# Altium schematic symbol library kmilo17pet-AD_Isolators.SchLib: 645 symbols (part 18 of 36)
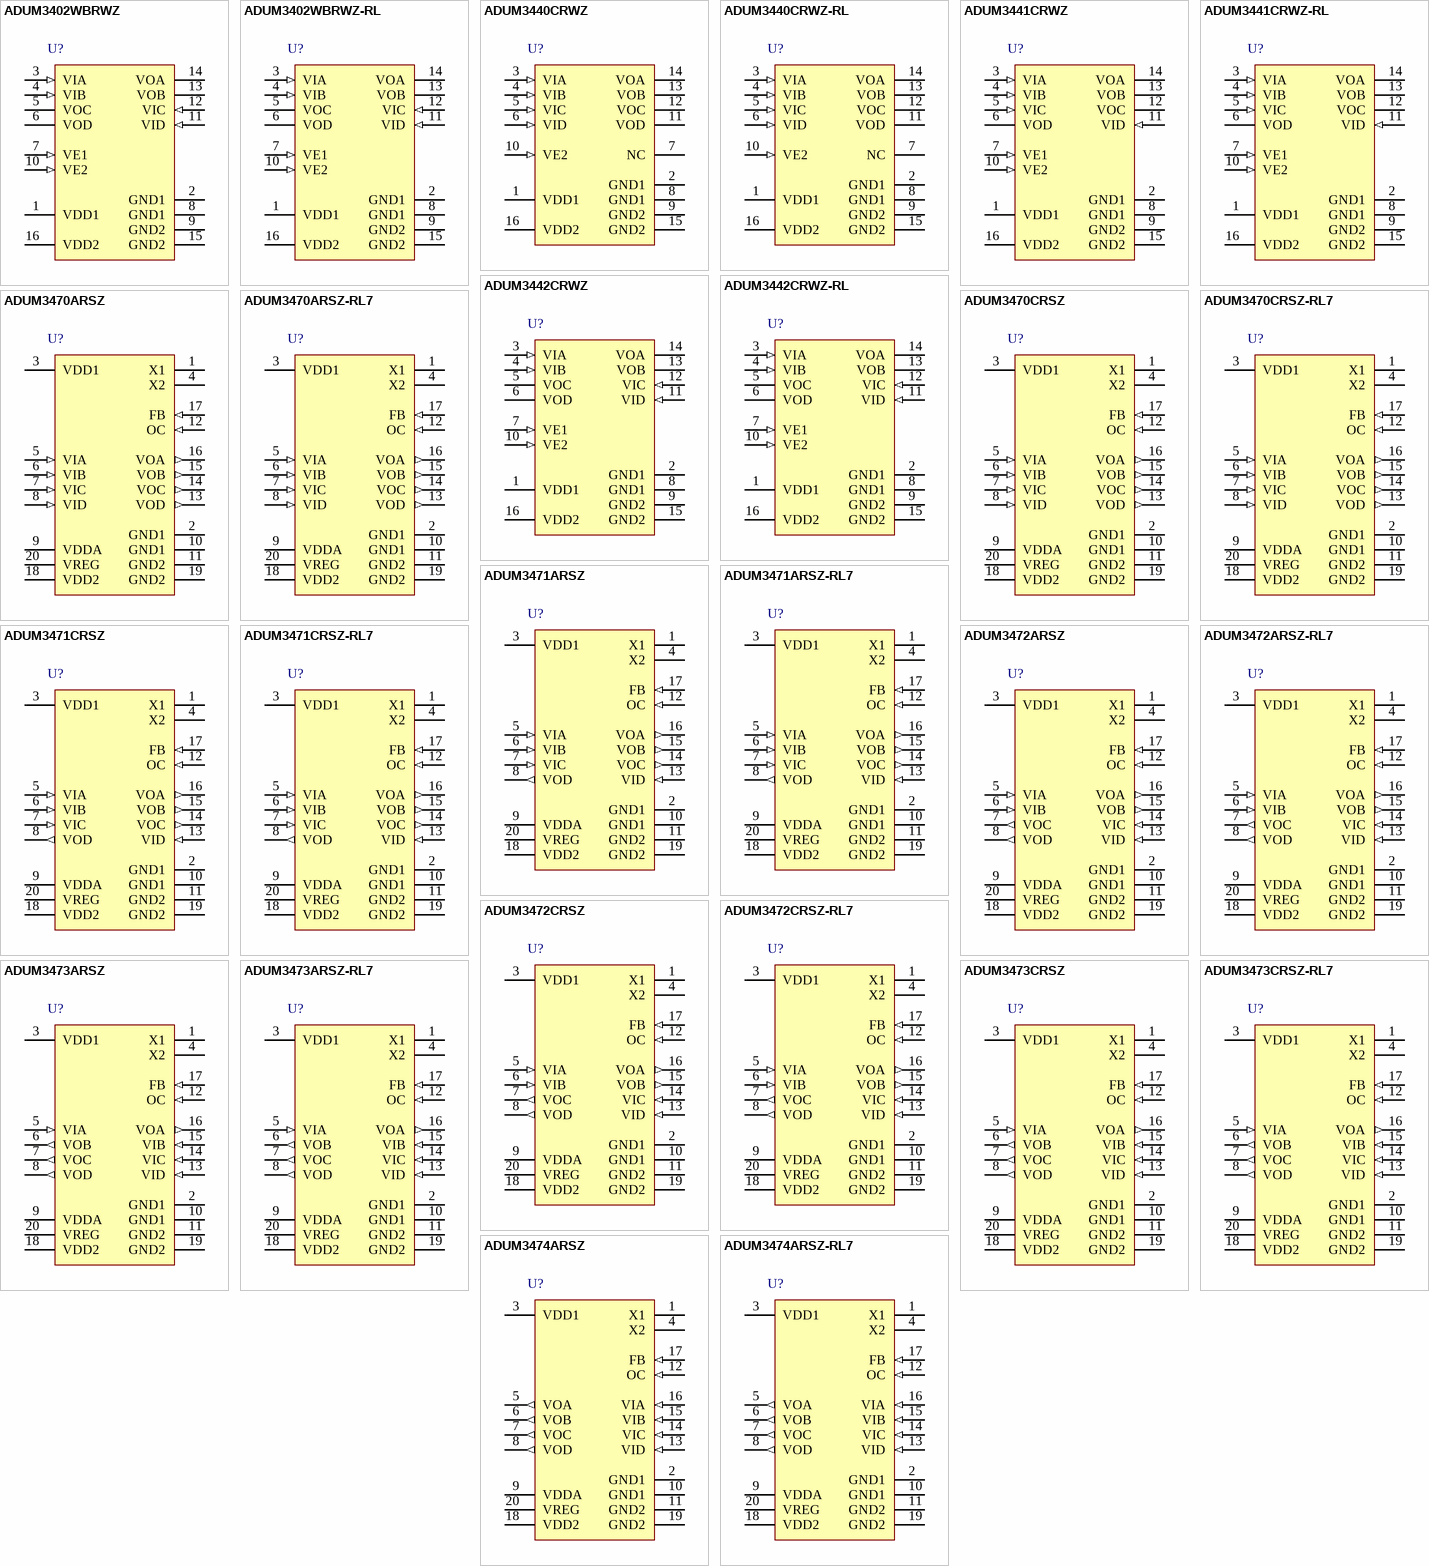
[diagram p37: symbols ADUM3402WBRWZ to ADUM3474ARSZ-RL7]

## ADUM3471ARSZ
designator U?
Isolated Switching Regulator, 2.5 KV rms Insulation Rating, 1 Mbps Data Rate, 100 ns Delay, Industrial, 20-pin SOP (RS-20), Tube; Manufacturer: Analog Devices; PartNumber: ADUM3471ARSZ; Insulation Rating (kVrms): 2.5; Max Data Rate: 1Mbps; Prop Delay: 100ns; DatasheetVersion: Rev. 0; PackageVersion: Mar-03; PackageReference: RS-20; PackageDescription: 20-Pin Shrink Small Outline Package, Body 7.2 x 5.3 mm, Pitch 0.65 mm; Supplier 1: Digi-Key; Supplier Part Number 1: ADUM3471ARSZ-ND; Max Operating Temp (degreesC): 105; Mounting Technology: Surface Mount; Code_JEDEC: MO-150AE; ComponentLink1Description: Manufacturer URL; ComponentLink1URL: http://www.analog.com/en/index.html; ComponentLink2Description: Datasheet; ComponentLink2URL: http://www.analog.com/static/imported-files/data_sheets/ADuM3470_3471_3472_3473_3474.pdf; ComponentLink3Description: Package Specification; ComponentLink3URL: http://www.analog.com/static/imported-files/packages/318405805657546556503576154334802686596RS_20.pdf; ComponentLink4Description: URL Link1; ComponentLink4URL: Reference Circuit:http://www.analog.com/en/interface-isolation/digital-isolators/adum3471/products/product.html#product-recommendations
footprint ADI-RS-20_N (SOP, 20-Leads, Body 7.2x5.3mm, Pitch 0.65mm, IPC Medium Density)
footprint ADI-RS-20_L (SOP, 20-Leads, Body 7.2x5.3mm, Pitch 0.65mm, IPC High Density)
footprint ADI-RS-20_M (SOP, 20-Leads, Body 7.2x5.3mm, Pitch 0.65mm, IPC Low Density)
pins: 1 X1 (power) "Transformer Driver Output 1.", 2 GND1 (power) "Ground 1. Ground reference for isolator primary.", 3 VDD1 (power) "Transformer Driver Supply Voltage 3.0 V to 5.5 V. Connect to VDDA pin. Connect a 10 uF bypass capacitor from VDD1 to GND1.", 4 X2 (power) "Transformer Driver Output 2.", 5 VIA (in) "Logic Input A.", 6 VIB (in) "Logic Input B.", 7 VIC (in) "Logic Input C.", 8 VOD (out) "Logic Output D.", 9 VDDA (power) "Primary Supply Voltage 3.0 V to 5.5 V. Connect to VDD1 pin. Connect a 0.1 uF bypass capacitor from VDDA to GND1.", 10 GND1 (power) "Ground 1. Ground reference for isolator primary.", 11 GND2 (power) "Ground Reference for Isolator Side 2.", 12 OC (in) "Oscillator Control Pin. When OC = logic high = VDD2, the secondary controller runs open-loop. To regulate the output voltage, connect a resistor between the OC pin and GND2, and the secondary controller runs at a frequency (See Datasheet)", 13 VID (in) "Logic Input D.", 14 VOC (out) "Logic Output C.", 15 VOB (out) "Logic Output B.", 16 VOA (out) "Logic Output A.", 17 FB (in) "Feedback Input from the Secondary Output Voltage VISO. Use a resistor divider from VISO to the FB pin to make the VFB voltage equal to the 1.25 V internal reference level using the VISO = VFB x (R1 + R2)/R2 formula. The (See Datasheet)", 18 VDD2 (power) "The Internal Supply Voltage Pin for the Secondary Side Controller and Side 2 Data Channels. When a sufficient external voltage is supplied to VREG, the internal regulator regulates the VDD2 pin to 5.0 V. Otherwise, VDD2 (See Datasheet)", 19 GND2 (power) "Ground Reference for Isolator Side 2.", 20 VREG (power) "The Input of the Internal Regulator to Power the Secondary Side Controller and Side 2 Data Channels. VREG should be in the 5.5 V to 15 V range to regulate the VDD2 output to 5.0 V."

## ADUM3471ARSZ-RL7
designator U?
Isolated Switching Regulator, 2.5 KV rms Insulation Rating, 1 Mbps Data Rate, 100 ns Delay, Industrial, 20-pin SOP (RS-20), Reel; Manufacturer: Analog Devices; PartNumber: ADUM3471ARSZ-RL7; Insulation Rating (kVrms): 2.5; Max Data Rate: 1Mbps; Prop Delay: 100ns; DatasheetVersion: Rev. 0; PackageVersion: Mar-03; PackageReference: RS-20; PackageDescription: 20-Pin Shrink Small Outline Package, Body 7.2 x 5.3 mm, Pitch 0.65 mm; Supplier 1: Mouser; Supplier Part Number 1: 584-ADUM3471ARSZ-R7; Max Operating Temp (degreesC): 105; Mounting Technology: Surface Mount; Code_JEDEC: MO-150AE; ComponentLink1Description: Manufacturer URL; ComponentLink1URL: http://www.analog.com/en/index.html; ComponentLink2Description: Datasheet; ComponentLink2URL: http://www.analog.com/static/imported-files/data_sheets/ADuM3470_3471_3472_3473_3474.pdf; ComponentLink3Description: Package Specification; ComponentLink3URL: http://www.analog.com/static/imported-files/packages/318405805657546556503576154334802686596RS_20.pdf; ComponentLink4Description: URL Link1; ComponentLink4URL: Reference Circuit:http://www.analog.com/en/interface-isolation/digital-isolators/adum3471/products/product.html#product-recommendations
footprint ADI-RS-20_N (SOP, 20-Leads, Body 7.2x5.3mm, Pitch 0.65mm, IPC Medium Density)
footprint ADI-RS-20_L (SOP, 20-Leads, Body 7.2x5.3mm, Pitch 0.65mm, IPC High Density)
footprint ADI-RS-20_M (SOP, 20-Leads, Body 7.2x5.3mm, Pitch 0.65mm, IPC Low Density)
pins: 1 X1 (power) "Transformer Driver Output 1.", 2 GND1 (power) "Ground 1. Ground reference for isolator primary.", 3 VDD1 (power) "Transformer Driver Supply Voltage 3.0 V to 5.5 V. Connect to VDDA pin. Connect a 10 uF bypass capacitor from VDD1 to GND1.", 4 X2 (power) "Transformer Driver Output 2.", 5 VIA (in) "Logic Input A.", 6 VIB (in) "Logic Input B.", 7 VIC (in) "Logic Input C.", 8 VOD (out) "Logic Output D.", 9 VDDA (power) "Primary Supply Voltage 3.0 V to 5.5 V. Connect to VDD1 pin. Connect a 0.1 uF bypass capacitor from VDDA to GND1.", 10 GND1 (power) "Ground 1. Ground reference for isolator primary.", 11 GND2 (power) "Ground Reference for Isolator Side 2.", 12 OC (in) "Oscillator Control Pin. When OC = logic high = VDD2, the secondary controller runs open-loop. To regulate the output voltage, connect a resistor between the OC pin and GND2, and the secondary controller runs at a frequency (See Datasheet)", 13 VID (in) "Logic Input D.", 14 VOC (out) "Logic Output C.", 15 VOB (out) "Logic Output B.", 16 VOA (out) "Logic Output A.", 17 FB (in) "Feedback Input from the Secondary Output Voltage VISO. Use a resistor divider from VISO to the FB pin to make the VFB voltage equal to the 1.25 V internal reference level using the VISO = VFB x (R1 + R2)/R2 formula. The (See Datasheet)", 18 VDD2 (power) "The Internal Supply Voltage Pin for the Secondary Side Controller and Side 2 Data Channels. When a sufficient external voltage is supplied to VREG, the internal regulator regulates the VDD2 pin to 5.0 V. Otherwise, VDD2 (See Datasheet)", 19 GND2 (power) "Ground Reference for Isolator Side 2.", 20 VREG (power) "The Input of the Internal Regulator to Power the Secondary Side Controller and Side 2 Data Channels. VREG should be in the 5.5 V to 15 V range to regulate the VDD2 output to 5.0 V."

## ADUM3471CRSZ
designator U?
Isolated Switching Regulator, 2.5 KV rms Insulation Rating, 25 Mbps Data Rate, 60 ns Delay, Industrial, 20-pin SOP (RS-20), Tube; Manufacturer: Analog Devices; PartNumber: ADUM3471CRSZ; Insulation Rating (kVrms): 5; Max Data Rate: 25Mbps; Prop Delay: 60ns; DatasheetVersion: Rev. 0; PackageVersion: Mar-03; PackageReference: RS-20; PackageDescription: 20-Pin Shrink Small Outline Package, Body 7.2 x 5.3 mm, Pitch 0.65 mm; Supplier 1: Digi-Key; Supplier Part Number 1: ADUM3471CRSZ-ND; Max Operating Temp (degreesC): 105; Mounting Technology: Surface Mount; Code_JEDEC: MO-150AE; ComponentLink1Description: Manufacturer URL; ComponentLink1URL: http://www.analog.com/en/index.html; ComponentLink2Description: Datasheet; ComponentLink2URL: http://www.analog.com/static/imported-files/data_sheets/ADuM3470_3471_3472_3473_3474.pdf; ComponentLink3Description: Package Specification; ComponentLink3URL: http://www.analog.com/static/imported-files/packages/318405805657546556503576154334802686596RS_20.pdf; ComponentLink4Description: URL Link1; ComponentLink4URL: Reference Circuit:http://www.analog.com/en/interface-isolation/digital-isolators/adum3471/products/product.html#product-recommendations
footprint ADI-RS-20_N (SOP, 20-Leads, Body 7.2x5.3mm, Pitch 0.65mm, IPC Medium Density)
footprint ADI-RS-20_L (SOP, 20-Leads, Body 7.2x5.3mm, Pitch 0.65mm, IPC High Density)
footprint ADI-RS-20_M (SOP, 20-Leads, Body 7.2x5.3mm, Pitch 0.65mm, IPC Low Density)
pins: 1 X1 (power) "Transformer Driver Output 1.", 2 GND1 (power) "Ground 1. Ground reference for isolator primary.", 3 VDD1 (power) "Transformer Driver Supply Voltage 3.0 V to 5.5 V. Connect to VDDA pin. Connect a 10 uF bypass capacitor from VDD1 to GND1.", 4 X2 (power) "Transformer Driver Output 2.", 5 VIA (in) "Logic Input A.", 6 VIB (in) "Logic Input B.", 7 VIC (in) "Logic Input C.", 8 VOD (out) "Logic Output D.", 9 VDDA (power) "Primary Supply Voltage 3.0 V to 5.5 V. Connect to VDD1 pin. Connect a 0.1 uF bypass capacitor from VDDA to GND1.", 10 GND1 (power) "Ground 1. Ground reference for isolator primary.", 11 GND2 (power) "Ground Reference for Isolator Side 2.", 12 OC (in) "Oscillator Control Pin. When OC = logic high = VDD2, the secondary controller runs open-loop. To regulate the output voltage, connect a resistor between the OC pin and GND2, and the secondary controller runs at a frequency (See Datasheet)", 13 VID (in) "Logic Input D.", 14 VOC (out) "Logic Output C.", 15 VOB (out) "Logic Output B.", 16 VOA (out) "Logic Output A.", 17 FB (in) "Feedback Input from the Secondary Output Voltage VISO. Use a resistor divider from VISO to the FB pin to make the VFB voltage equal to the 1.25 V internal reference level using the VISO = VFB x (R1 + R2)/R2 formula. The (See Datasheet)", 18 VDD2 (power) "The Internal Supply Voltage Pin for the Secondary Side Controller and Side 2 Data Channels. When a sufficient external voltage is supplied to VREG, the internal regulator regulates the VDD2 pin to 5.0 V. Otherwise, VDD2 (See Datasheet)", 19 GND2 (power) "Ground Reference for Isolator Side 2.", 20 VREG (power) "The Input of the Internal Regulator to Power the Secondary Side Controller and Side 2 Data Channels. VREG should be in the 5.5 V to 15 V range to regulate the VDD2 output to 5.0 V."

## ADUM3471CRSZ-RL7
designator U?
Isolated Switching Regulator, 2.5 KV rms Insulation Rating, 25 Mbps Data Rate, 60 ns Delay, Industrial, 20-pin SOP (RS-20), Reel; Manufacturer: Analog Devices; PartNumber: ADUM3471CRSZ-RL7; Insulation Rating (kVrms): 5; Max Data Rate: 25Mbps; Prop Delay: 60ns; DatasheetVersion: Rev. 0; PackageVersion: Mar-03; PackageReference: RS-20; PackageDescription: 20-Pin Shrink Small Outline Package, Body 7.2 x 5.3 mm, Pitch 0.65 mm; Supplier 1: Mouser; Supplier Part Number 1: 584-ADUM3471CRSZ-R7; Max Operating Temp (degreesC): 105; Mounting Technology: Surface Mount; Code_JEDEC: MO-150AE; ComponentLink1Description: Manufacturer URL; ComponentLink1URL: http://www.analog.com/en/index.html; ComponentLink2Description: Datasheet; ComponentLink2URL: http://www.analog.com/static/imported-files/data_sheets/ADuM3470_3471_3472_3473_3474.pdf; ComponentLink3Description: Package Specification; ComponentLink3URL: http://www.analog.com/static/imported-files/packages/318405805657546556503576154334802686596RS_20.pdf; ComponentLink4Description: URL Link1; ComponentLink4URL: Reference Circuit:http://www.analog.com/en/interface-isolation/digital-isolators/adum3471/products/product.html#product-recommendations
footprint ADI-RS-20_N (SOP, 20-Leads, Body 7.2x5.3mm, Pitch 0.65mm, IPC Medium Density)
footprint ADI-RS-20_L (SOP, 20-Leads, Body 7.2x5.3mm, Pitch 0.65mm, IPC High Density)
footprint ADI-RS-20_M (SOP, 20-Leads, Body 7.2x5.3mm, Pitch 0.65mm, IPC Low Density)
pins: 1 X1 (power) "Transformer Driver Output 1.", 2 GND1 (power) "Ground 1. Ground reference for isolator primary.", 3 VDD1 (power) "Transformer Driver Supply Voltage 3.0 V to 5.5 V. Connect to VDDA pin. Connect a 10 uF bypass capacitor from VDD1 to GND1.", 4 X2 (power) "Transformer Driver Output 2.", 5 VIA (in) "Logic Input A.", 6 VIB (in) "Logic Input B.", 7 VIC (in) "Logic Input C.", 8 VOD (out) "Logic Output D.", 9 VDDA (power) "Primary Supply Voltage 3.0 V to 5.5 V. Connect to VDD1 pin. Connect a 0.1 uF bypass capacitor from VDDA to GND1.", 10 GND1 (power) "Ground 1. Ground reference for isolator primary.", 11 GND2 (power) "Ground Reference for Isolator Side 2.", 12 OC (in) "Oscillator Control Pin. When OC = logic high = VDD2, the secondary controller runs open-loop. To regulate the output voltage, connect a resistor between the OC pin and GND2, and the secondary controller runs at a frequency (See Datasheet)", 13 VID (in) "Logic Input D.", 14 VOC (out) "Logic Output C.", 15 VOB (out) "Logic Output B.", 16 VOA (out) "Logic Output A.", 17 FB (in) "Feedback Input from the Secondary Output Voltage VISO. Use a resistor divider from VISO to the FB pin to make the VFB voltage equal to the 1.25 V internal reference level using the VISO = VFB x (R1 + R2)/R2 formula. The (See Datasheet)", 18 VDD2 (power) "The Internal Supply Voltage Pin for the Secondary Side Controller and Side 2 Data Channels. When a sufficient external voltage is supplied to VREG, the internal regulator regulates the VDD2 pin to 5.0 V. Otherwise, VDD2 (See Datasheet)", 19 GND2 (power) "Ground Reference for Isolator Side 2.", 20 VREG (power) "The Input of the Internal Regulator to Power the Secondary Side Controller and Side 2 Data Channels. VREG should be in the 5.5 V to 15 V range to regulate the VDD2 output to 5.0 V."

## ADUM3472ARSZ
designator U?
Isolated Switching Regulator, 2.5 KV rms Insulation Rating, 1 Mbps Data Rate, 100 ns Delay, Industrial, 20-pin SOP (RS-20), Tube; Manufacturer: Analog Devices; PartNumber: ADUM3472ARSZ; Insulation Rating (kVrms): 2.5; Max Data Rate: 1Mbps; Prop Delay: 100ns; DatasheetVersion: Rev. 0; PackageVersion: Mar-03; PackageReference: RS-20; PackageDescription: 20-Pin Shrink Small Outline Package, Body 7.2 x 5.3 mm, Pitch 0.65 mm; Supplier 1: Digi-Key; Supplier Part Number 1: ADUM3472ARSZ-ND; Max Operating Temp (degreesC): 105; Mounting Technology: Surface Mount; Code_JEDEC: MO-150AE; ComponentLink1Description: Manufacturer URL; ComponentLink1URL: http://www.analog.com/en/index.html; ComponentLink2Description: Datasheet; ComponentLink2URL: http://www.analog.com/static/imported-files/data_sheets/ADuM3470_3471_3472_3473_3474.pdf; ComponentLink3Description: Package Specification; ComponentLink3URL: http://www.analog.com/static/imported-files/packages/318405805657546556503576154334802686596RS_20.pdf
footprint ADI-RS-20_N (SOP, 20-Leads, Body 7.2x5.3mm, Pitch 0.65mm, IPC Medium Density)
footprint ADI-RS-20_L (SOP, 20-Leads, Body 7.2x5.3mm, Pitch 0.65mm, IPC High Density)
footprint ADI-RS-20_M (SOP, 20-Leads, Body 7.2x5.3mm, Pitch 0.65mm, IPC Low Density)
pins: 1 X1 (power) "Transformer Driver Output 1.", 2 GND1 (power) "Ground 1. Ground reference for isolator primary.", 3 VDD1 (power) "Transformer Driver Supply Voltage 3.0 V to 5.5 V. Connect to VDDA pin. Connect a 10 uF bypass capacitor from VDD1 to GND1.", 4 X2 (power) "Transformer Driver Output 2.", 5 VIA (in) "Logic Input A.", 6 VIB (in) "Logic Input B.", 7 VOC (out) "Logic Output C.", 8 VOD (out) "Logic Output D.", 9 VDDA (power) "Primary Supply Voltage 3.0 V to 5.5 V. Connect to VDD1 pin. Connect a 0.1 uF bypass capacitor from VDDA to GND1.", 10 GND1 (power) "Ground 1. Ground reference for isolator primary.", 11 GND2 (power) "Ground Reference for Isolator Side 2.", 12 OC (in) "Oscillator Control Pin. When OC = logic high = VDD2, the secondary controller runs open-loop. To regulate the output voltage, connect a resistor between the OC pin and GND2, and the secondary controller runs at a frequency (See Datasheet)", 13 VID (in) "Logic Input D.", 14 VIC (in) "Logic Input C.", 15 VOB (out) "Logic Output B.", 16 VOA (out) "Logic Output A.", 17 FB (in) "Feedback Input from the Secondary Output Voltage VISO. Use a resistor divider from VISO to the FB pin to make the VFB voltage equal to the 1.25 V internal reference level using the VISO = VFB x (R1 + R2)/R2 formula. The (See Datasheet)", 18 VDD2 (power) "The Internal Supply Voltage Pin for the Secondary Side Controller and Side 2 Data Channels. When a sufficient external voltage is supplied to VREG, the internal regulator regulates the VDD2 pin to 5.0 V. Otherwise, VDD2 (See Datasheet)", 19 GND2 (power) "Ground Reference for Isolator Side 2.", 20 VREG (power) "The Input of the Internal Regulator to Power the Secondary Side Controller and Side 2 Data Channels. VREG should be in the 5.5 V to 15 V range to regulate the VDD2 output to 5.0 V."

## ADUM3472ARSZ-RL7
designator U?
Isolated Switching Regulator, 2.5 KV rms Insulation Rating, 1 Mbps Data Rate, 100 ns Delay, Industrial, 20-pin SOP (RS-20), Reel; Manufacturer: Analog Devices; PartNumber: ADUM3472ARSZ-RL7; Insulation Rating (kVrms): 5; Max Data Rate: 1Mbps; Prop Delay: 100ns; DatasheetVersion: Rev. 0; PackageVersion: Mar-03; PackageReference: RS-20; PackageDescription: 20-Pin Shrink Small Outline Package, Body 7.2 x 5.3 mm, Pitch 0.65 mm; Supplier 1: Mouser; Supplier Part Number 1: 584-ADUM3472ARSZ-R7; Max Operating Temp (degreesC): 105; Mounting Technology: Surface Mount; Code_JEDEC: MO-150AE; ComponentLink1Description: Manufacturer URL; ComponentLink1URL: http://www.analog.com/en/index.html; ComponentLink2Description: Datasheet; ComponentLink2URL: http://www.analog.com/static/imported-files/data_sheets/ADuM3470_3471_3472_3473_3474.pdf; ComponentLink3Description: Package Specification; ComponentLink3URL: http://www.analog.com/static/imported-files/packages/318405805657546556503576154334802686596RS_20.pdf
footprint ADI-RS-20_N (SOP, 20-Leads, Body 7.2x5.3mm, Pitch 0.65mm, IPC Medium Density)
footprint ADI-RS-20_L (SOP, 20-Leads, Body 7.2x5.3mm, Pitch 0.65mm, IPC High Density)
footprint ADI-RS-20_M (SOP, 20-Leads, Body 7.2x5.3mm, Pitch 0.65mm, IPC Low Density)
pins: 1 X1 (power) "Transformer Driver Output 1.", 2 GND1 (power) "Ground 1. Ground reference for isolator primary.", 3 VDD1 (power) "Transformer Driver Supply Voltage 3.0 V to 5.5 V. Connect to VDDA pin. Connect a 10 uF bypass capacitor from VDD1 to GND1.", 4 X2 (power) "Transformer Driver Output 2.", 5 VIA (in) "Logic Input A.", 6 VIB (in) "Logic Input B.", 7 VOC (out) "Logic Output C.", 8 VOD (out) "Logic Output D.", 9 VDDA (power) "Primary Supply Voltage 3.0 V to 5.5 V. Connect to VDD1 pin. Connect a 0.1 uF bypass capacitor from VDDA to GND1.", 10 GND1 (power) "Ground 1. Ground reference for isolator primary.", 11 GND2 (power) "Ground Reference for Isolator Side 2.", 12 OC (in) "Oscillator Control Pin. When OC = logic high = VDD2, the secondary controller runs open-loop. To regulate the output voltage, connect a resistor between the OC pin and GND2, and the secondary controller runs at a frequency (See Datasheet)", 13 VID (in) "Logic Input D.", 14 VIC (in) "Logic Input C.", 15 VOB (out) "Logic Output B.", 16 VOA (out) "Logic Output A.", 17 FB (in) "Feedback Input from the Secondary Output Voltage VISO. Use a resistor divider from VISO to the FB pin to make the VFB voltage equal to the 1.25 V internal reference level using the VISO = VFB x (R1 + R2)/R2 formula. The (See Datasheet)", 18 VDD2 (power) "The Internal Supply Voltage Pin for the Secondary Side Controller and Side 2 Data Channels. When a sufficient external voltage is supplied to VREG, the internal regulator regulates the VDD2 pin to 5.0 V. Otherwise, VDD2 (See Datasheet)", 19 GND2 (power) "Ground Reference for Isolator Side 2.", 20 VREG (power) "The Input of the Internal Regulator to Power the Secondary Side Controller and Side 2 Data Channels. VREG should be in the 5.5 V to 15 V range to regulate the VDD2 output to 5.0 V."

## ADUM3472CRSZ
designator U?
Isolated Switching Regulator, 2.5 KV rms Insulation Rating, 25 Mbps Data Rate, 60 ns Delay, Industrial, 20-pin SOP (RS-20), Tube; Manufacturer: Analog Devices; PartNumber: ADUM3472CRSZ; Insulation Rating (kVrms): 2.5; Max Data Rate: 25Mbps; Prop Delay: 60ns; DatasheetVersion: Rev. 0; PackageVersion: Mar-03; PackageReference: RS-20; PackageDescription: 20-Pin Shrink Small Outline Package, Body 7.2 x 5.3 mm, Pitch 0.65 mm; Supplier 1: Digi-Key; Supplier Part Number 1: ADUM3472CRSZ-ND; Max Operating Temp (degreesC): 105; Mounting Technology: Surface Mount; Code_JEDEC: MO-150AE; ComponentLink1Description: Manufacturer URL; ComponentLink1URL: http://www.analog.com/en/index.html; ComponentLink2Description: Datasheet; ComponentLink2URL: http://www.analog.com/static/imported-files/data_sheets/ADuM3470_3471_3472_3473_3474.pdf; ComponentLink3Description: Package Specification; ComponentLink3URL: http://www.analog.com/static/imported-files/packages/318405805657546556503576154334802686596RS_20.pdf
footprint ADI-RS-20_N (SOP, 20-Leads, Body 7.2x5.3mm, Pitch 0.65mm, IPC Medium Density)
footprint ADI-RS-20_L (SOP, 20-Leads, Body 7.2x5.3mm, Pitch 0.65mm, IPC High Density)
footprint ADI-RS-20_M (SOP, 20-Leads, Body 7.2x5.3mm, Pitch 0.65mm, IPC Low Density)
pins: 1 X1 (power) "Transformer Driver Output 1.", 2 GND1 (power) "Ground 1. Ground reference for isolator primary.", 3 VDD1 (power) "Transformer Driver Supply Voltage 3.0 V to 5.5 V. Connect to VDDA pin. Connect a 10 uF bypass capacitor from VDD1 to GND1.", 4 X2 (power) "Transformer Driver Output 2.", 5 VIA (in) "Logic Input A.", 6 VIB (in) "Logic Input B.", 7 VOC (out) "Logic Output C.", 8 VOD (out) "Logic Output D.", 9 VDDA (power) "Primary Supply Voltage 3.0 V to 5.5 V. Connect to VDD1 pin. Connect a 0.1 uF bypass capacitor from VDDA to GND1.", 10 GND1 (power) "Ground 1. Ground reference for isolator primary.", 11 GND2 (power) "Ground Reference for Isolator Side 2.", 12 OC (in) "Oscillator Control Pin. When OC = logic high = VDD2, the secondary controller runs open-loop. To regulate the output voltage, connect a resistor between the OC pin and GND2, and the secondary controller runs at a frequency (See Datasheet)", 13 VID (in) "Logic Input D.", 14 VIC (in) "Logic Input C.", 15 VOB (out) "Logic Output B.", 16 VOA (out) "Logic Output A.", 17 FB (in) "Feedback Input from the Secondary Output Voltage VISO. Use a resistor divider from VISO to the FB pin to make the VFB voltage equal to the 1.25 V internal reference level using the VISO = VFB x (R1 + R2)/R2 formula. The (See Datasheet)", 18 VDD2 (power) "The Internal Supply Voltage Pin for the Secondary Side Controller and Side 2 Data Channels. When a sufficient external voltage is supplied to VREG, the internal regulator regulates the VDD2 pin to 5.0 V. Otherwise, VDD2 (See Datasheet)", 19 GND2 (power) "Ground Reference for Isolator Side 2.", 20 VREG (power) "The Input of the Internal Regulator to Power the Secondary Side Controller and Side 2 Data Channels. VREG should be in the 5.5 V to 15 V range to regulate the VDD2 output to 5.0 V."

## ADUM3472CRSZ-RL7
designator U?
Isolated Switching Regulator, 2.5 KV rms Insulation Rating, 25 Mbps Data Rate, 60 ns Delay, Industrial, 20-pin SOP (RS-20), Reel; Manufacturer: Analog Devices; PartNumber: ADUM3472CRSZ-RL7; Insulation Rating (kVrms): 2.5; Max Data Rate: 25Mbps; Prop Delay: 60ns; DatasheetVersion: Rev. 0; PackageVersion: Mar-03; PackageReference: RS-20; PackageDescription: 20-Pin Shrink Small Outline Package, Body 7.2 x 5.3 mm, Pitch 0.65 mm; Supplier 1: Mouser; Supplier Part Number 1: 584-ADUM3472CRSZ-R7; Max Operating Temp (degreesC): 105; Mounting Technology: Surface Mount; Code_JEDEC: MO-150AE; ComponentLink1Description: Manufacturer URL; ComponentLink1URL: http://www.analog.com/en/index.html; ComponentLink2Description: Datasheet; ComponentLink2URL: http://www.analog.com/static/imported-files/data_sheets/ADuM3470_3471_3472_3473_3474.pdf; ComponentLink3Description: Package Specification; ComponentLink3URL: http://www.analog.com/static/imported-files/packages/318405805657546556503576154334802686596RS_20.pdf
footprint ADI-RS-20_N (SOP, 20-Leads, Body 7.2x5.3mm, Pitch 0.65mm, IPC Medium Density)
footprint ADI-RS-20_L (SOP, 20-Leads, Body 7.2x5.3mm, Pitch 0.65mm, IPC High Density)
footprint ADI-RS-20_M (SOP, 20-Leads, Body 7.2x5.3mm, Pitch 0.65mm, IPC Low Density)
pins: 1 X1 (power) "Transformer Driver Output 1.", 2 GND1 (power) "Ground 1. Ground reference for isolator primary.", 3 VDD1 (power) "Transformer Driver Supply Voltage 3.0 V to 5.5 V. Connect to VDDA pin. Connect a 10 uF bypass capacitor from VDD1 to GND1.", 4 X2 (power) "Transformer Driver Output 2.", 5 VIA (in) "Logic Input A.", 6 VIB (in) "Logic Input B.", 7 VOC (out) "Logic Output C.", 8 VOD (out) "Logic Output D.", 9 VDDA (power) "Primary Supply Voltage 3.0 V to 5.5 V. Connect to VDD1 pin. Connect a 0.1 uF bypass capacitor from VDDA to GND1.", 10 GND1 (power) "Ground 1. Ground reference for isolator primary.", 11 GND2 (power) "Ground Reference for Isolator Side 2.", 12 OC (in) "Oscillator Control Pin. When OC = logic high = VDD2, the secondary controller runs open-loop. To regulate the output voltage, connect a resistor between the OC pin and GND2, and the secondary controller runs at a frequency (See Datasheet)", 13 VID (in) "Logic Input D.", 14 VIC (in) "Logic Input C.", 15 VOB (out) "Logic Output B.", 16 VOA (out) "Logic Output A.", 17 FB (in) "Feedback Input from the Secondary Output Voltage VISO. Use a resistor divider from VISO to the FB pin to make the VFB voltage equal to the 1.25 V internal reference level using the VISO = VFB x (R1 + R2)/R2 formula. The (See Datasheet)", 18 VDD2 (power) "The Internal Supply Voltage Pin for the Secondary Side Controller and Side 2 Data Channels. When a sufficient external voltage is supplied to VREG, the internal regulator regulates the VDD2 pin to 5.0 V. Otherwise, VDD2 (See Datasheet)", 19 GND2 (power) "Ground Reference for Isolator Side 2.", 20 VREG (power) "The Input of the Internal Regulator to Power the Secondary Side Controller and Side 2 Data Channels. VREG should be in the 5.5 V to 15 V range to regulate the VDD2 output to 5.0 V."

## ADUM3473ARSZ
designator U?
Isolated Switching Regulator, 2.5 KV rms Insulation Rating, 1 Mbps Data Rate, 100 ns Delay, Industrial, 20-pin SOP (RS-20), Tube; Manufacturer: Analog Devices; PartNumber: ADUM3473ARSZ; Insulation Rating (kVrms): 2.5; Max Data Rate: 1Mbps; Prop Delay: 100ns; DatasheetVersion: Rev. 0; PackageVersion: Mar-03; PackageReference: RS-20; PackageDescription: 20-Pin Shrink Small Outline Package, Body 7.2 x 5.3 mm, Pitch 0.65 mm; Supplier 1: Digi-Key; Supplier Part Number 1: ADUM3473ARSZ-ND; Max Operating Temp (degreesC): 105; Mounting Technology: Surface Mount; Code_JEDEC: MO-150AE; ComponentLink1Description: Manufacturer URL; ComponentLink1URL: http://www.analog.com/en/index.html; ComponentLink2Description: Datasheet; ComponentLink2URL: http://www.analog.com/static/imported-files/data_sheets/ADuM3470_3471_3472_3473_3474.pdf; ComponentLink3Description: Package Specification; ComponentLink3URL: http://www.analog.com/static/imported-files/packages/318405805657546556503576154334802686596RS_20.pdf
footprint ADI-RS-20_N (SOP, 20-Leads, Body 7.2x5.3mm, Pitch 0.65mm, IPC Medium Density)
footprint ADI-RS-20_L (SOP, 20-Leads, Body 7.2x5.3mm, Pitch 0.65mm, IPC High Density)
footprint ADI-RS-20_M (SOP, 20-Leads, Body 7.2x5.3mm, Pitch 0.65mm, IPC Low Density)
pins: 1 X1 (power) "Transformer Driver Output 1.", 2 GND1 (power) "Ground 1. Ground reference for isolator primary.", 3 VDD1 (power) "Transformer Driver Supply Voltage 3.0 V to 5.5 V. Connect to VDDA pin. Connect a 10 uF bypass capacitor from VDD1 to GND1.", 4 X2 (power) "Transformer Driver Output 2.", 5 VIA (in) "Logic Input A.", 6 VOB (out) "Logic Output B.", 7 VOC (out) "Logic Output C.", 8 VOD (out) "Logic Output D.", 9 VDDA (power) "Primary Supply Voltage 3.0 V to 5.5 V. Connect to VDD1 pin. Connect a 0.1 uF bypass capacitor from VDDA to GND1.", 10 GND1 (power) "Ground 1. Ground reference for isolator primary.", 11 GND2 (power) "Ground Reference for Isolator Side 2.", 12 OC (in) "Oscillator Control Pin. When OC = logic high = VDD2, the secondary controller runs open-loop. To regulate the output voltage, connect a resistor between the OC pin and GND2, and the secondary controller runs at a frequency (See Datasheet)", 13 VID (in) "Logic Input D.", 14 VIC (in) "Logic Input C.", 15 VIB (in) "Logic Input B.", 16 VOA (out) "Logic Output A.", 17 FB (in) "Feedback Input from the Secondary Output Voltage VISO. Use a resistor divider from VISO to the FB pin to make the VFB voltage equal to the 1.25 V internal reference level using the VISO = VFB x (R1 + R2)/R2 formula. The (See Datasheet)", 18 VDD2 (power) "The Internal Supply Voltage Pin for the Secondary Side Controller and Side 2 Data Channels. When a sufficient external voltage is supplied to VREG, the internal regulator regulates the VDD2 pin to 5.0 V. Otherwise, VDD2 (See Datasheet)", 19 GND2 (power) "Ground Reference for Isolator Side 2.", 20 VREG (power) "The Input of the Internal Regulator to Power the Secondary Side Controller and Side 2 Data Channels. VREG should be in the 5.5 V to 15 V range to regulate the VDD2 output to 5.0 V."

## ADUM3473ARSZ-RL7
designator U?
Isolated Switching Regulator, 2.5 KV rms Insulation Rating, 1 Mbps Data Rate, 100 ns Delay, Industrial, 20-pin SOP (RS-20), Reel; Manufacturer: Analog Devices; PartNumber: ADUM3473ARSZ-RL7; Insulation Rating (kVrms): 2.5; Max Data Rate: 1Mbps; Prop Delay: 100ns; DatasheetVersion: Rev. 0; PackageVersion: Mar-03; PackageReference: RS-20; PackageDescription: 20-Pin Shrink Small Outline Package, Body 7.2 x 5.3 mm, Pitch 0.65 mm; Supplier 1: Mouser; Supplier Part Number 1: 584-ADUM3473ARSZ-R7; Max Operating Temp (degreesC): 105; Mounting Technology: Surface Mount; Code_JEDEC: MO-150AE; ComponentLink1Description: Manufacturer URL; ComponentLink1URL: http://www.analog.com/en/index.html; ComponentLink2Description: Datasheet; ComponentLink2URL: http://www.analog.com/static/imported-files/data_sheets/ADuM3470_3471_3472_3473_3474.pdf; ComponentLink3Description: Package Specification; ComponentLink3URL: http://www.analog.com/static/imported-files/packages/318405805657546556503576154334802686596RS_20.pdf
footprint ADI-RS-20_N (SOP, 20-Leads, Body 7.2x5.3mm, Pitch 0.65mm, IPC Medium Density)
footprint ADI-RS-20_L (SOP, 20-Leads, Body 7.2x5.3mm, Pitch 0.65mm, IPC High Density)
footprint ADI-RS-20_M (SOP, 20-Leads, Body 7.2x5.3mm, Pitch 0.65mm, IPC Low Density)
pins: 1 X1 (power) "Transformer Driver Output 1.", 2 GND1 (power) "Ground 1. Ground reference for isolator primary.", 3 VDD1 (power) "Transformer Driver Supply Voltage 3.0 V to 5.5 V. Connect to VDDA pin. Connect a 10 uF bypass capacitor from VDD1 to GND1.", 4 X2 (power) "Transformer Driver Output 2.", 5 VIA (in) "Logic Input A.", 6 VOB (out) "Logic Output B.", 7 VOC (out) "Logic Output C.", 8 VOD (out) "Logic Output D.", 9 VDDA (power) "Primary Supply Voltage 3.0 V to 5.5 V. Connect to VDD1 pin. Connect a 0.1 uF bypass capacitor from VDDA to GND1.", 10 GND1 (power) "Ground 1. Ground reference for isolator primary.", 11 GND2 (power) "Ground Reference for Isolator Side 2.", 12 OC (in) "Oscillator Control Pin. When OC = logic high = VDD2, the secondary controller runs open-loop. To regulate the output voltage, connect a resistor between the OC pin and GND2, and the secondary controller runs at a frequency (See Datasheet)", 13 VID (in) "Logic Input D.", 14 VIC (in) "Logic Input C.", 15 VIB (in) "Logic Input B.", 16 VOA (out) "Logic Output A.", 17 FB (in) "Feedback Input from the Secondary Output Voltage VISO. Use a resistor divider from VISO to the FB pin to make the VFB voltage equal to the 1.25 V internal reference level using the VISO = VFB x (R1 + R2)/R2 formula. The (See Datasheet)", 18 VDD2 (power) "The Internal Supply Voltage Pin for the Secondary Side Controller and Side 2 Data Channels. When a sufficient external voltage is supplied to VREG, the internal regulator regulates the VDD2 pin to 5.0 V. Otherwise, VDD2 (See Datasheet)", 19 GND2 (power) "Ground Reference for Isolator Side 2.", 20 VREG (power) "The Input of the Internal Regulator to Power the Secondary Side Controller and Side 2 Data Channels. VREG should be in the 5.5 V to 15 V range to regulate the VDD2 output to 5.0 V."

## ADUM3473CRSZ
designator U?
Isolated Switching Regulator, 2.5 KV rms Insulation Rating, 25 Mbps Data Rate, 60 ns Delay, Industrial, 20-pin SOP (RS-20), Tube; Manufacturer: Analog Devices; PartNumber: ADUM3473CRSZ; Insulation Rating (kVrms): 2.5; Max Data Rate: 25Mbps; Prop Delay: 60ns; DatasheetVersion: Rev. 0; PackageVersion: Mar-03; PackageReference: RS-20; PackageDescription: 20-Pin Shrink Small Outline Package, Body 7.2 x 5.3 mm, Pitch 0.65 mm; Supplier 1: Digi-Key; Supplier Part Number 1: ADUM3473CRSZ-ND; Max Operating Temp (degreesC): 105; Mounting Technology: Surface Mount; Code_JEDEC: MO-150AE; ComponentLink1Description: Manufacturer URL; ComponentLink1URL: http://www.analog.com/en/index.html; ComponentLink2Description: Datasheet; ComponentLink2URL: http://www.analog.com/static/imported-files/data_sheets/ADuM3470_3471_3472_3473_3474.pdf; ComponentLink3Description: Package Specification; ComponentLink3URL: http://www.analog.com/static/imported-files/packages/318405805657546556503576154334802686596RS_20.pdf
footprint ADI-RS-20_N (SOP, 20-Leads, Body 7.2x5.3mm, Pitch 0.65mm, IPC Medium Density)
footprint ADI-RS-20_L (SOP, 20-Leads, Body 7.2x5.3mm, Pitch 0.65mm, IPC High Density)
footprint ADI-RS-20_M (SOP, 20-Leads, Body 7.2x5.3mm, Pitch 0.65mm, IPC Low Density)
pins: 1 X1 (power) "Transformer Driver Output 1.", 2 GND1 (power) "Ground 1. Ground reference for isolator primary.", 3 VDD1 (power) "Transformer Driver Supply Voltage 3.0 V to 5.5 V. Connect to VDDA pin. Connect a 10 uF bypass capacitor from VDD1 to GND1.", 4 X2 (power) "Transformer Driver Output 2.", 5 VIA (in) "Logic Input A.", 6 VOB (out) "Logic Output B.", 7 VOC (out) "Logic Output C.", 8 VOD (out) "Logic Output D.", 9 VDDA (power) "Primary Supply Voltage 3.0 V to 5.5 V. Connect to VDD1 pin. Connect a 0.1 uF bypass capacitor from VDDA to GND1.", 10 GND1 (power) "Ground 1. Ground reference for isolator primary.", 11 GND2 (power) "Ground Reference for Isolator Side 2.", 12 OC (in) "Oscillator Control Pin. When OC = logic high = VDD2, the secondary controller runs open-loop. To regulate the output voltage, connect a resistor between the OC pin and GND2, and the secondary controller runs at a frequency (See Datasheet)", 13 VID (in) "Logic Input D.", 14 VIC (in) "Logic Input C.", 15 VIB (in) "Logic Input B.", 16 VOA (out) "Logic Output A.", 17 FB (in) "Feedback Input from the Secondary Output Voltage VISO. Use a resistor divider from VISO to the FB pin to make the VFB voltage equal to the 1.25 V internal reference level using the VISO = VFB x (R1 + R2)/R2 formula. The (See Datasheet)", 18 VDD2 (power) "The Internal Supply Voltage Pin for the Secondary Side Controller and Side 2 Data Channels. When a sufficient external voltage is supplied to VREG, the internal regulator regulates the VDD2 pin to 5.0 V. Otherwise, VDD2 (See Datasheet)", 19 GND2 (power) "Ground Reference for Isolator Side 2.", 20 VREG (power) "The Input of the Internal Regulator to Power the Secondary Side Controller and Side 2 Data Channels. VREG should be in the 5.5 V to 15 V range to regulate the VDD2 output to 5.0 V."

## ADUM3473CRSZ-RL7
designator U?
Isolated Switching Regulator, 2.5 KV rms Insulation Rating, 25 Mbps Data Rate, 60 ns Delay, Industrial, 20-pin SOP (RS-20), Reel; Manufacturer: Analog Devices; PartNumber: ADUM3473CRSZ-RL7; Insulation Rating (kVrms): 2.5; Max Data Rate: 25Mbps; Prop Delay: 60ns; DatasheetVersion: Rev. 0; PackageVersion: Mar-03; PackageReference: RS-20; PackageDescription: 20-Pin Shrink Small Outline Package, Body 7.2 x 5.3 mm, Pitch 0.65 mm; Supplier 1: Mouser; Supplier Part Number 1: 584-ADUM3473CRSZ-R7; Max Operating Temp (degreesC): 105; Mounting Technology: Surface Mount; Code_JEDEC: MO-150AE; ComponentLink1Description: Manufacturer URL; ComponentLink1URL: http://www.analog.com/en/index.html; ComponentLink2Description: Datasheet; ComponentLink2URL: http://www.analog.com/static/imported-files/data_sheets/ADuM3470_3471_3472_3473_3474.pdf; ComponentLink3Description: Package Specification; ComponentLink3URL: http://www.analog.com/static/imported-files/packages/318405805657546556503576154334802686596RS_20.pdf
footprint ADI-RS-20_N (SOP, 20-Leads, Body 7.2x5.3mm, Pitch 0.65mm, IPC Medium Density)
footprint ADI-RS-20_L (SOP, 20-Leads, Body 7.2x5.3mm, Pitch 0.65mm, IPC High Density)
footprint ADI-RS-20_M (SOP, 20-Leads, Body 7.2x5.3mm, Pitch 0.65mm, IPC Low Density)
pins: 1 X1 (power) "Transformer Driver Output 1.", 2 GND1 (power) "Ground 1. Ground reference for isolator primary.", 3 VDD1 (power) "Transformer Driver Supply Voltage 3.0 V to 5.5 V. Connect to VDDA pin. Connect a 10 uF bypass capacitor from VDD1 to GND1.", 4 X2 (power) "Transformer Driver Output 2.", 5 VIA (in) "Logic Input A.", 6 VOB (out) "Logic Output B.", 7 VOC (out) "Logic Output C.", 8 VOD (out) "Logic Output D.", 9 VDDA (power) "Primary Supply Voltage 3.0 V to 5.5 V. Connect to VDD1 pin. Connect a 0.1 uF bypass capacitor from VDDA to GND1.", 10 GND1 (power) "Ground 1. Ground reference for isolator primary.", 11 GND2 (power) "Ground Reference for Isolator Side 2.", 12 OC (in) "Oscillator Control Pin. When OC = logic high = VDD2, the secondary controller runs open-loop. To regulate the output voltage, connect a resistor between the OC pin and GND2, and the secondary controller runs at a frequency (See Datasheet)", 13 VID (in) "Logic Input D.", 14 VIC (in) "Logic Input C.", 15 VIB (in) "Logic Input B.", 16 VOA (out) "Logic Output A.", 17 FB (in) "Feedback Input from the Secondary Output Voltage VISO. Use a resistor divider from VISO to the FB pin to make the VFB voltage equal to the 1.25 V internal reference level using the VISO = VFB x (R1 + R2)/R2 formula. The (See Datasheet)", 18 VDD2 (power) "The Internal Supply Voltage Pin for the Secondary Side Controller and Side 2 Data Channels. When a sufficient external voltage is supplied to VREG, the internal regulator regulates the VDD2 pin to 5.0 V. Otherwise, VDD2 (See Datasheet)", 19 GND2 (power) "Ground Reference for Isolator Side 2.", 20 VREG (power) "The Input of the Internal Regulator to Power the Secondary Side Controller and Side 2 Data Channels. VREG should be in the 5.5 V to 15 V range to regulate the VDD2 output to 5.0 V."

## ADUM3474ARSZ
designator U?
Isolated Switching Regulator, 2.5 KV rms Insulation Rating, 1 Mbps Data Rate, 100 ns Delay, Industrial, 20-pin SOP (RS-20), Tube; Manufacturer: Analog Devices; PartNumber: ADUM3474ARSZ; Insulation Rating (kVrms): 2.5; Max Data Rate: 1Mbps; Prop Delay: 100ns; DatasheetVersion: Rev. 0; PackageVersion: Mar-03; PackageReference: RS-20; PackageDescription: 20-Pin Shrink Small Outline Package, Body 7.2 x 5.3 mm, Pitch 0.65 mm; Supplier 1: Digi-Key; Supplier Part Number 1: ADUM3474ARSZ-ND; Max Operating Temp (degreesC): 105; Mounting Technology: Surface Mount; Code_JEDEC: MO-150AE; ComponentLink1Description: Manufacturer URL; ComponentLink1URL: http://www.analog.com/en/index.html; ComponentLink2Description: Datasheet; ComponentLink2URL: http://www.analog.com/static/imported-files/data_sheets/ADuM3470_3471_3472_3473_3474.pdf; ComponentLink3Description: Package Specification; ComponentLink3URL: http://www.analog.com/static/imported-files/packages/318405805657546556503576154334802686596RS_20.pdf
footprint ADI-RS-20_N (SOP, 20-Leads, Body 7.2x5.3mm, Pitch 0.65mm, IPC Medium Density)
footprint ADI-RS-20_L (SOP, 20-Leads, Body 7.2x5.3mm, Pitch 0.65mm, IPC High Density)
footprint ADI-RS-20_M (SOP, 20-Leads, Body 7.2x5.3mm, Pitch 0.65mm, IPC Low Density)
pins: 1 X1 (power) "Transformer Driver Output 1.", 2 GND1 (power) "Ground 1. Ground reference for isolator primary.", 3 VDD1 (power) "Transformer Driver Supply Voltage 3.0 V to 5.5 V. Connect to VDDA pin. Connect a 10 uF bypass capacitor from VDD1 to GND1.", 4 X2 (power) "Transformer Driver Output 2.", 5 VOA (out) "Logic Output A.", 6 VOB (out) "Logic Output B.", 7 VOC (out) "Logic Output C.", 8 VOD (out) "Logic Output D.", 9 VDDA (power) "Primary Supply Voltage 3.0 V to 5.5 V. Connect to VDD1 pin. Connect a 0.1 uF bypass capacitor from VDDA to GND1.", 10 GND1 (power) "Ground 1. Ground reference for isolator primary.", 11 GND2 (power) "Ground Reference for Isolator Side 2.", 12 OC (in) "Oscillator Control Pin. When OC = logic high = VDD2, the secondary controller runs open-loop. To regulate the output voltage, connect a resistor between the OC pin and GND2, and the secondary controller runs at a frequency (See Datasheet)", 13 VID (in) "Logic Input D.", 14 VIC (in) "Logic Input C.", 15 VIB (in) "Logic Input B.", 16 VIA (in) "Logic Input A.", 17 FB (in) "Feedback Input from the Secondary Output Voltage VISO. Use a resistor divider from VISO to the FB pin to make the VFB voltage equal to the 1.25 V internal reference level using the VISO = VFB x (R1 + R2)/R2 formula. The (See Datasheet)", 18 VDD2 (power) "The Internal Supply Voltage Pin for the Secondary Side Controller and Side 2 Data Channels. When a sufficient external voltage is supplied to VREG, the internal regulator regulates the VDD2 pin to 5.0 V. Otherwise, VDD2 (See Datasheet)", 19 GND2 (power) "Ground Reference for Isolator Side 2.", 20 VREG (power) "The Input of the Internal Regulator to Power the Secondary Side Controller and Side 2 Data Channels. VREG should be in the 5.5 V to 15 V range to regulate the VDD2 output to 5.0 V."

## ADUM3474ARSZ-RL7
designator U?
Isolated Switching Regulator, 2.5 KV rms Insulation Rating, 1 Mbps Data Rate, 100 ns Delay, Industrial, 20-pin SOP (RS-20), Reel; Manufacturer: Analog Devices; PartNumber: ADUM3474ARSZ-RL7; Insulation Rating (kVrms): 2.5; Max Data Rate: 1Mbps; Prop Delay: 100ns; DatasheetVersion: Rev. 0; PackageVersion: Mar-03; PackageReference: RS-20; PackageDescription: 20-Pin Shrink Small Outline Package, Body 7.2 x 5.3 mm, Pitch 0.65 mm; Supplier 1: Mouser; Supplier Part Number 1: 584-ADUM3474ARSZ-R7; Max Operating Temp (degreesC): 105; Mounting Technology: Surface Mount; Code_JEDEC: MO-150AE; ComponentLink1Description: Manufacturer URL; ComponentLink1URL: http://www.analog.com/en/index.html; ComponentLink2Description: Datasheet; ComponentLink2URL: http://www.analog.com/static/imported-files/data_sheets/ADuM3470_3471_3472_3473_3474.pdf; ComponentLink3Description: Package Specification; ComponentLink3URL: http://www.analog.com/static/imported-files/packages/318405805657546556503576154334802686596RS_20.pdf
footprint ADI-RS-20_N (SOP, 20-Leads, Body 7.2x5.3mm, Pitch 0.65mm, IPC Medium Density)
footprint ADI-RS-20_L (SOP, 20-Leads, Body 7.2x5.3mm, Pitch 0.65mm, IPC High Density)
footprint ADI-RS-20_M (SOP, 20-Leads, Body 7.2x5.3mm, Pitch 0.65mm, IPC Low Density)
pins: 1 X1 (power) "Transformer Driver Output 1.", 2 GND1 (power) "Ground 1. Ground reference for isolator primary.", 3 VDD1 (power) "Transformer Driver Supply Voltage 3.0 V to 5.5 V. Connect to VDDA pin. Connect a 10 uF bypass capacitor from VDD1 to GND1.", 4 X2 (power) "Transformer Driver Output 2.", 5 VOA (out) "Logic Output A.", 6 VOB (out) "Logic Output B.", 7 VOC (out) "Logic Output C.", 8 VOD (out) "Logic Output D.", 9 VDDA (power) "Primary Supply Voltage 3.0 V to 5.5 V. Connect to VDD1 pin. Connect a 0.1 uF bypass capacitor from VDDA to GND1.", 10 GND1 (power) "Ground 1. Ground reference for isolator primary.", 11 GND2 (power) "Ground Reference for Isolator Side 2.", 12 OC (in) "Oscillator Control Pin. When OC = logic high = VDD2, the secondary controller runs open-loop. To regulate the output voltage, connect a resistor between the OC pin and GND2, and the secondary controller runs at a frequency (See Datasheet)", 13 VID (in) "Logic Input D.", 14 VIC (in) "Logic Input C.", 15 VIB (in) "Logic Input B.", 16 VIA (in) "Logic Input A.", 17 FB (in) "Feedback Input from the Secondary Output Voltage VISO. Use a resistor divider from VISO to the FB pin to make the VFB voltage equal to the 1.25 V internal reference level using the VISO = VFB x (R1 + R2)/R2 formula. The (See Datasheet)", 18 VDD2 (power) "The Internal Supply Voltage Pin for the Secondary Side Controller and Side 2 Data Channels. When a sufficient external voltage is supplied to VREG, the internal regulator regulates the VDD2 pin to 5.0 V. Otherwise, VDD2 (See Datasheet)", 19 GND2 (power) "Ground Reference for Isolator Side 2.", 20 VREG (power) "The Input of the Internal Regulator to Power the Secondary Side Controller and Side 2 Data Channels. VREG should be in the 5.5 V to 15 V range to regulate the VDD2 output to 5.0 V."

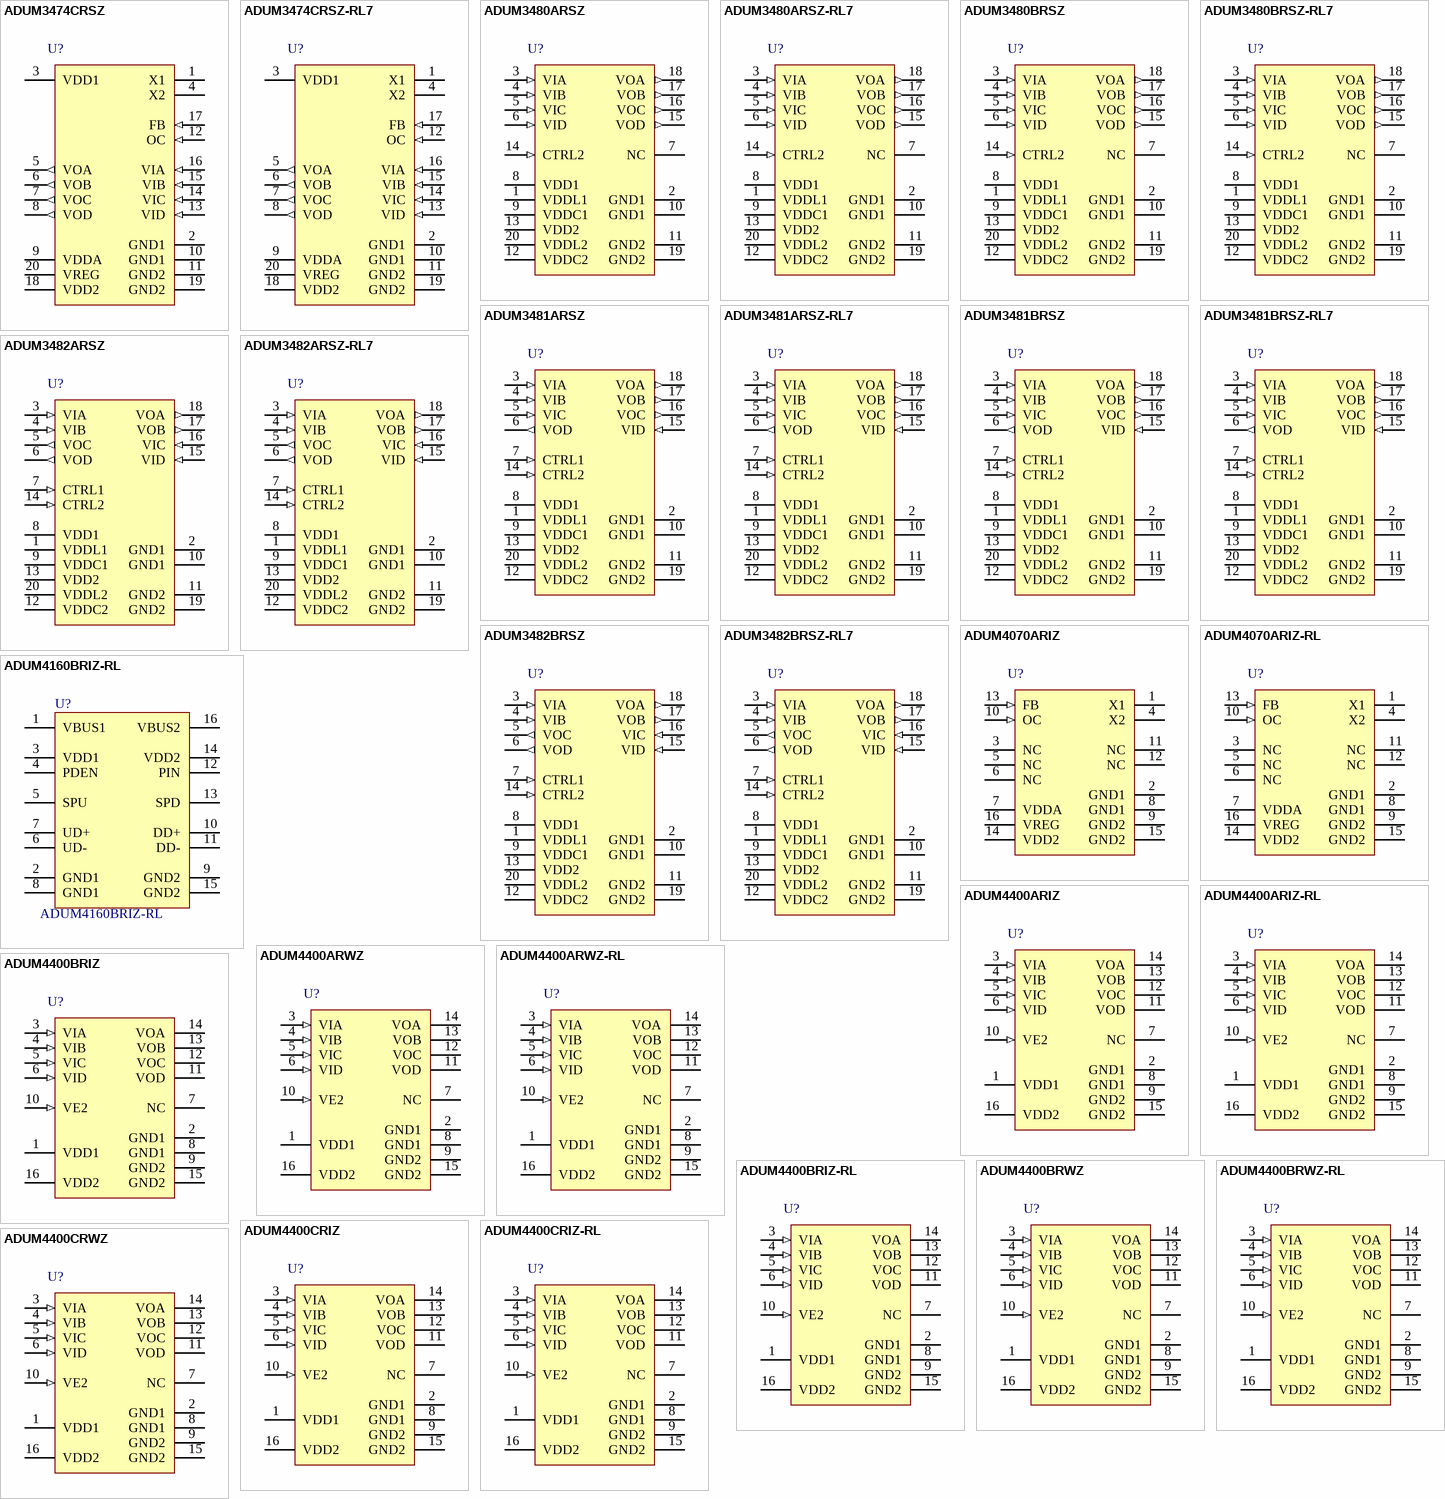
[diagram p12: symbols ADUM3474CRSZ to ADUM4400CRWZ]

## ADUM3474CRSZ
designator U?
Isolated Switching Regulator, 2.5 KV rms Insulation Rating, 25 Mbps Data Rate, 60 ns Delay, Industrial, 20-pin SOP (RS-20), Tube; Manufacturer: Analog Devices; PartNumber: ADUM3474CRSZ; Insulation Rating (kVrms): 2.5; Max Data Rate: 25Mbps; Prop Delay: 60ns; DatasheetVersion: Rev. 0; PackageVersion: Mar-03; PackageReference: RS-20; PackageDescription: 20-Pin Shrink Small Outline Package, Body 7.2 x 5.3 mm, Pitch 0.65 mm; Supplier 1: Digi-Key; Supplier Part Number 1: ADUM3474CRSZ-ND; Max Operating Temp (degreesC): 105; Mounting Technology: Surface Mount; Code_JEDEC: MO-150AE; ComponentLink1Description: Manufacturer URL; ComponentLink1URL: http://www.analog.com/en/index.html; ComponentLink2Description: Datasheet; ComponentLink2URL: http://www.analog.com/static/imported-files/data_sheets/ADuM3470_3471_3472_3473_3474.pdf; ComponentLink3Description: Package Specification; ComponentLink3URL: http://www.analog.com/static/imported-files/packages/318405805657546556503576154334802686596RS_20.pdf
footprint ADI-RS-20_N (SOP, 20-Leads, Body 7.2x5.3mm, Pitch 0.65mm, IPC Medium Density)
footprint ADI-RS-20_L (SOP, 20-Leads, Body 7.2x5.3mm, Pitch 0.65mm, IPC High Density)
footprint ADI-RS-20_M (SOP, 20-Leads, Body 7.2x5.3mm, Pitch 0.65mm, IPC Low Density)
pins: 1 X1 (power) "Transformer Driver Output 1.", 2 GND1 (power) "Ground 1. Ground reference for isolator primary.", 3 VDD1 (power) "Transformer Driver Supply Voltage 3.0 V to 5.5 V. Connect to VDDA pin. Connect a 10 uF bypass capacitor from VDD1 to GND1.", 4 X2 (power) "Transformer Driver Output 2.", 5 VOA (out) "Logic Output A.", 6 VOB (out) "Logic Output B.", 7 VOC (out) "Logic Output C.", 8 VOD (out) "Logic Output D.", 9 VDDA (power) "Primary Supply Voltage 3.0 V to 5.5 V. Connect to VDD1 pin. Connect a 0.1 uF bypass capacitor from VDDA to GND1.", 10 GND1 (power) "Ground 1. Ground reference for isolator primary.", 11 GND2 (power) "Ground Reference for Isolator Side 2.", 12 OC (in) "Oscillator Control Pin. When OC = logic high = VDD2, the secondary controller runs open-loop. To regulate the output voltage, connect a resistor between the OC pin and GND2, and the secondary controller runs at a frequency (See Datasheet)", 13 VID (in) "Logic Input D.", 14 VIC (in) "Logic Input C.", 15 VIB (in) "Logic Input B.", 16 VIA (in) "Logic Input A.", 17 FB (in) "Feedback Input from the Secondary Output Voltage VISO. Use a resistor divider from VISO to the FB pin to make the VFB voltage equal to the 1.25 V internal reference level using the VISO = VFB x (R1 + R2)/R2 formula. The (See Datasheet)", 18 VDD2 (power) "The Internal Supply Voltage Pin for the Secondary Side Controller and Side 2 Data Channels. When a sufficient external voltage is supplied to VREG, the internal regulator regulates the VDD2 pin to 5.0 V. Otherwise, VDD2 (See Datasheet)", 19 GND2 (power) "Ground Reference for Isolator Side 2.", 20 VREG (power) "The Input of the Internal Regulator to Power the Secondary Side Controller and Side 2 Data Channels. VREG should be in the 5.5 V to 15 V range to regulate the VDD2 output to 5.0 V."